# EAGLE library part PI_PICO (library 07-Retrocomputing)
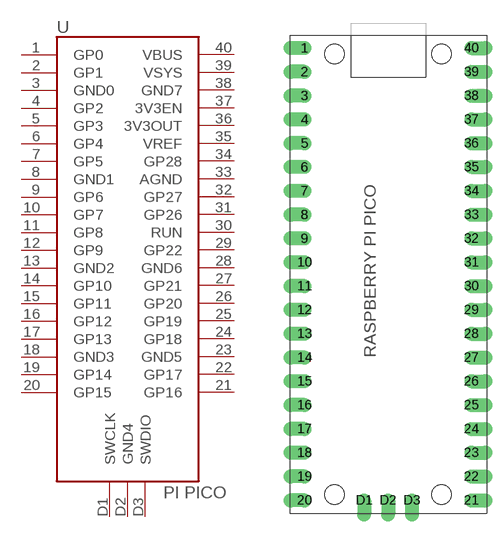
[diagram p31: symbol with the pads of PI_PICO; footprint PI_PICO]

Designator prefix U

## PI_PICO  [PI_PICO]
1  GP0
2  GP1
3  GND0
4  GP2
5  GP3
6  GP4
7  GP5
8  GND1
9  GP6
10  GP7
11  GP8
12  GP9
13  GND2
14  GP10
15  GP11
16  GP12
17  GP13
18  GND3
19  GP14
20  GP15
21  GP16
22  GP17
23  GND5
24  GP18
25  GP19
26  GP20
27  GP21
28  GND6
29  GP22
30  RUN
31  GP26
32  GP27
33  AGND
34  GP28
35  VREF
36  3V3OUT
37  3V3EN
38  GND7
39  VSYS
40  VBUS
D1  SWCLK
D2  GND4
D3  SWDIO

## Footprint PI_PICO (pad centres in mm)
drill 1 offset: 1 -8.89,24.13; 2 -8.89,21.59; 3 -8.89,19.05; 4 -8.89,16.51; 5 -8.89,13.97; 6 -8.89,11.43; 7 -8.89,8.89; 8 -8.89,6.35; 9 -8.89,3.81; 10 -8.89,1.27; 11 -8.89,-1.27; 12 -8.89,-3.81; 13 -8.89,-6.35; 14 -8.89,-8.89; 15 -8.89,-11.43; 16 -8.89,-13.97; 17 -8.89,-16.51; 18 -8.89,-19.05; 19 -8.89,-21.59; 20 -8.89,-24.13; 21 8.89,-24.13; 22 8.89,-21.59; 23 8.89,-19.05; 24 8.89,-16.51; 25 8.89,-13.97; 26 8.89,-11.43; 27 8.89,-8.89; 28 8.89,-6.35; 29 8.89,-3.81; 30 8.89,-1.27; 31 8.89,1.27; 32 8.89,3.81; 33 8.89,6.35; 34 8.89,8.89; 35 8.89,11.43; 36 8.89,13.97; 37 8.89,16.51; 38 8.89,19.05; 39 8.89,21.59; 40 8.89,24.13; D1 -2.54,-24.13; D2 0,-24.13; D3 2.54,-24.13
hole 2.1 at -5.7,23.5
hole 2.1 at 5.7,23.5
hole 2.1 at 5.7,-23.5
hole 2.1 at -5.7,-23.5